# Altium schematic symbol library 1998933.SchLib: 1 symbol
Pins are listed as number, name and electrical type; pins without a type are passive.

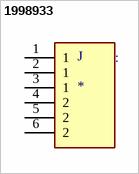
[diagram p0: symbol 1998933]

## 1998933
designator J
2 Position Terminal Block Header, Male Pins, Shrouded (4 Side) 0.400 (10.16mm) 90Â°, Right Angle Through Hole; MP: 1998933; MF: Phoenix Contact; DigiKey-Purchase-URL: https://snapeda.com/shop?store=DigiKey&id=3614781; Mouser-Purchase-URL: https://snapeda.com/shop?store=Mouser&id=3614781; Package: None; Digi-Key_Part_Number: 277-1844-ND; Value: *; SnapEDA_Link: https://www.snapeda.com/parts/1998933/Phoenix%20Contact/view-part/3614781/?ref=snap
footprint PHOENIX_CONTACT_1998933
pins: 1, 2 1, 3 1, 4 2, 5 2, 6 2